# Altium schematic symbol library SS_Component.SchLib: 8 symbols
Pins are listed as number, name and electrical type; pins without a type are passive.

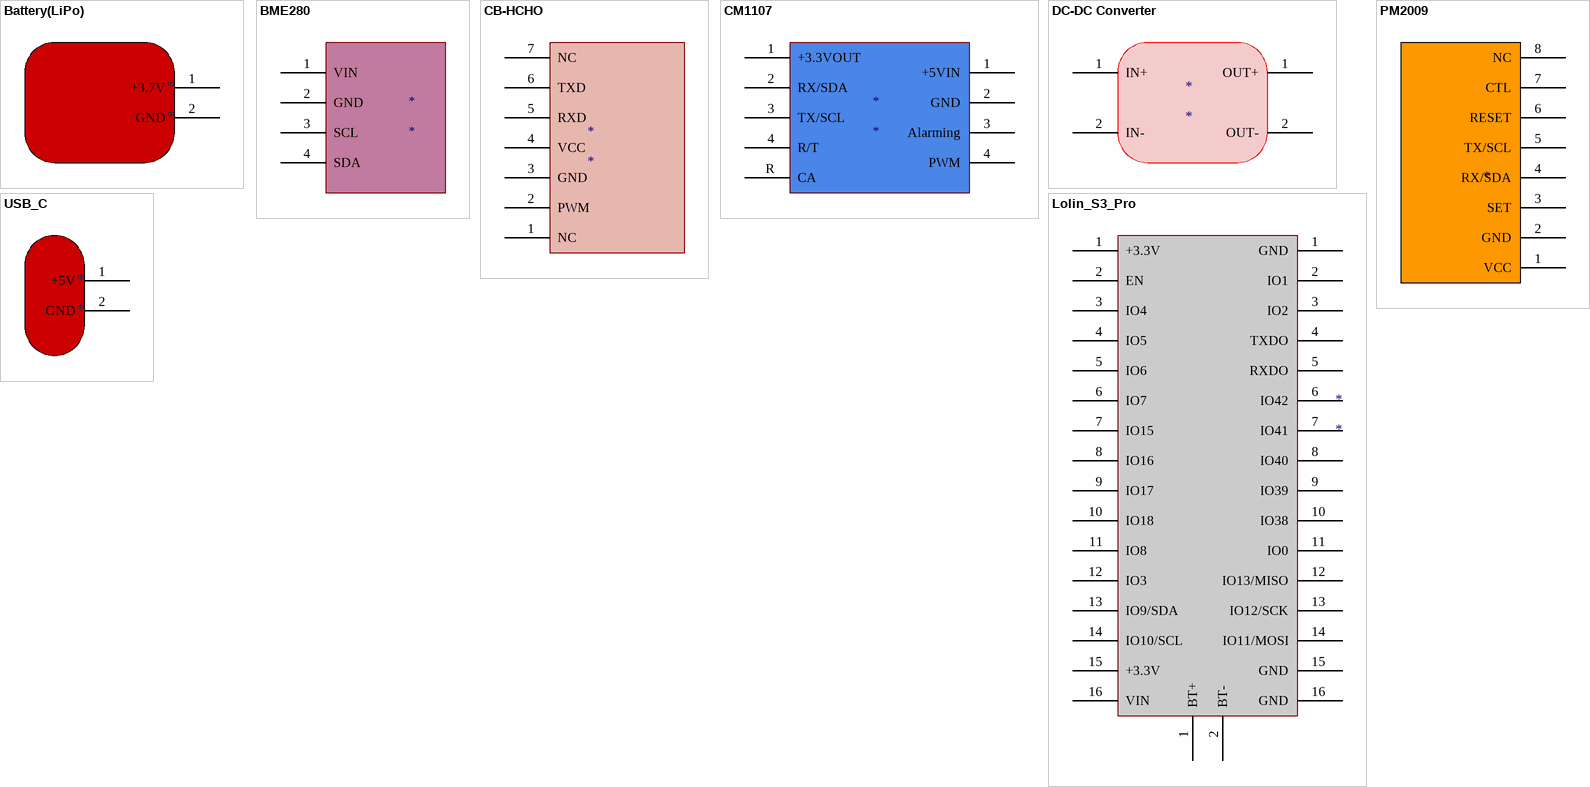
[diagram p0: symbols Battery(LiPo) to USB_C]

## Battery(LiPo)
designator *
pins: 1 +3.7V, 2 GND

## BME280
designator *
pins: 1 VIN (power), 2 GND (power), 3 SCL, 4 SDA 

## CB-HCHO
designator *
pins: 1 NC, 2 PWM, 3 GND, 4 VCC, 5 RXD, 6 TXD, 7 NC

## CM1107
designator *
pins: 1 +5VIN, 1 +3.3VOUT, 2 GND, 2 RX/SDA, 3 Alarming, 3 TX/SCL, 4 PWM, 4 R/T, R CA

## DC-DC Converter
designator *
pins: 1 OUT+, 1 IN+, 2 OUT-, 2 IN-

## Lolin_S3_Pro
designator *
pins: 1 +3.3V (power), 1 GND (power), 1 BT+, 2 EN, 2 IO1, 2 BT-, 3 IO4, 3 IO2, 4 IO5, 4 TXDO, 5 IO6, 5 RXDO, 6 IO7, 6 IO42, 7 IO15, 7 IO41, 8 IO16, 8 IO40, 9 IO17, 9 IO39, 10 IO18, 10 IO38, 11 IO8, 11 IO0, 12 IO3, 12 IO13/MISO, 13 IO9/SDA, 13 IO12/SCK, 14 IO10/SCL, 14 IO11/MOSI, 15 +3.3V (power), 15 GND (power), 16 VIN (power), 16 GND (power)

## PM2009
designator ?
pins: 1 VCC, 2 GND, 3 SET, 4 RX/SDA, 5 TX/SCL, 6 RESET, 7 CTL, 8 NC

## USB_C
designator *
pins: 1 +5V (power), 2 GND (power)